# Altium footprint library Seeed-OPL-fuse.PCBLIB: 10 footprints
Each footprint in its own frame and in the unit in brackets; x right, y up, seen from the top. Pads: shape width x height; smd on the part's side, far side on the other; paste and mask are expansions set on the pad; w line width, h text height; cw(c..) or ccw(c..) is an arc to the next point about the centre after c.
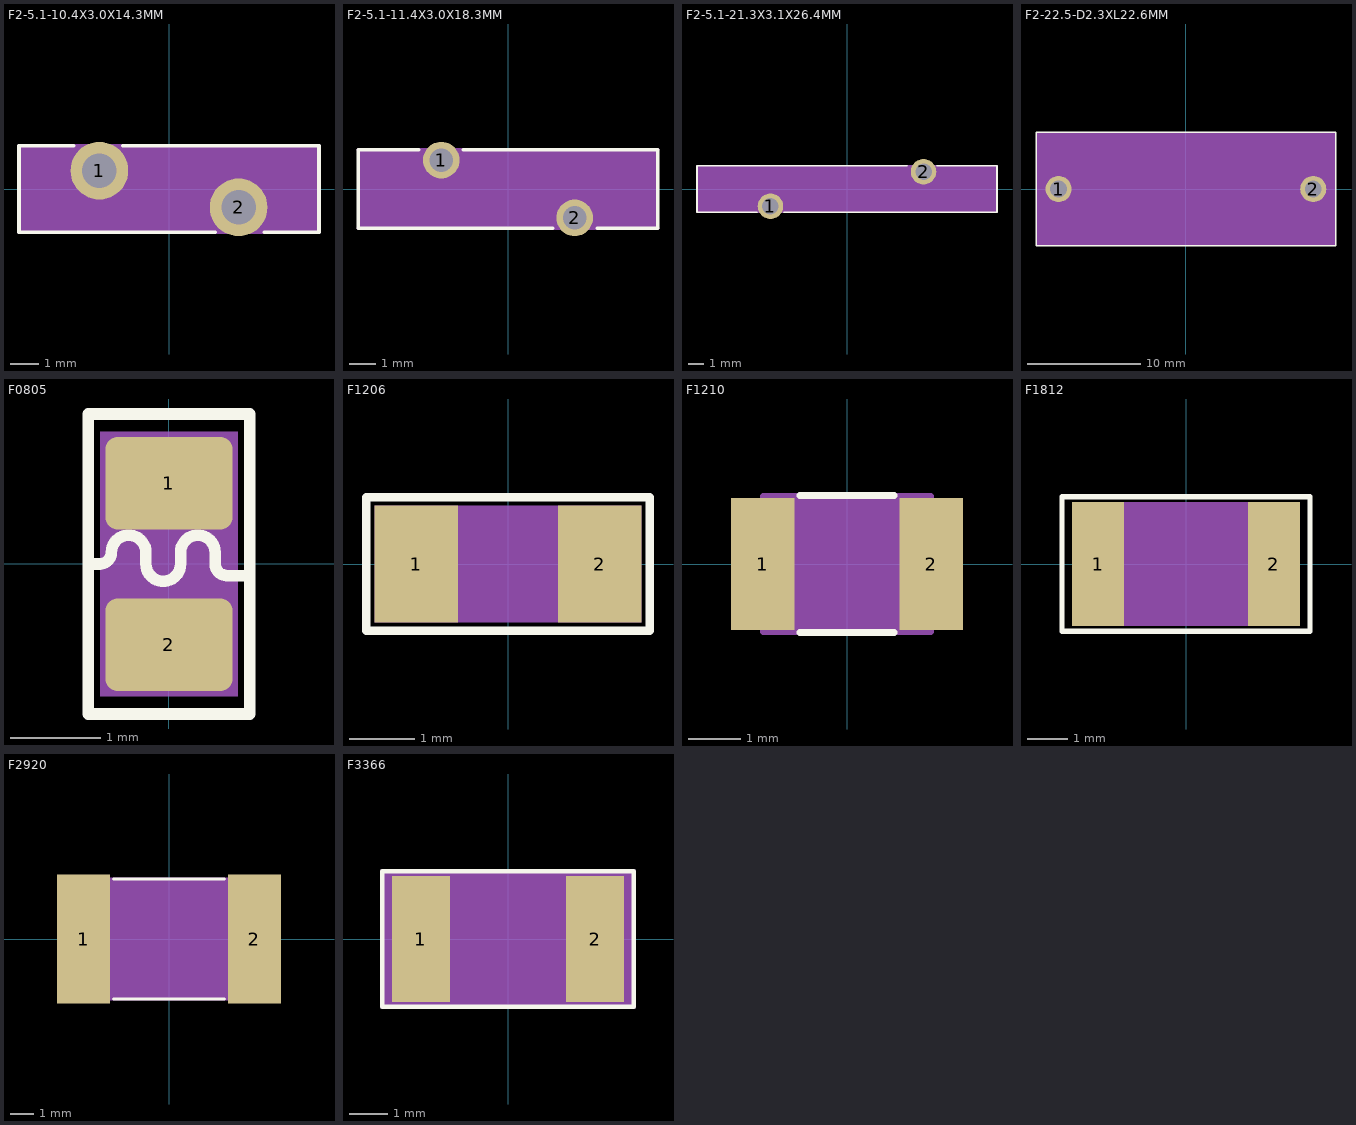
[diagram p0: the footprints below, top view; thin cyan lines are the x and y axes]

## F2-5.1-10.4X3.0X14.3MM [mm]
pads (2):
  round 2 hole 1.2: 1(-2.413,0.635) 2(2.413,-0.635)
Top Overlay:
  lines w0.127: -3.3,1.5 -5.2,1.5 -5.2,-1.5 1.6,-1.5 ; -1.6,1.5 5.2,1.5 5.2,-1.5 3.3,-1.5
Mechanical 16:
  lines w0.127: -5.2,-1.5 5.2,-1.5 ; -5.2,1.5 5.2,1.5
Mechanical 27:
  rectangle: -5.2,-1.5 5.2,1.5

## F2-5.1-11.4X3.0X18.3MM [mil]
pads (2):
  round 55 hole 35: 1(-100,43.31) 2(100,-43.31)
Top Overlay:
  lines w5: -133.86,59.06 -224.41,59.06 -224.41,-59.06 66.93,-59.06 ; -66.93,59.06 224.41,59.06 224.41,-59.06 133.86,-59.06
Mechanical 16:
  lines w5: -224.41,-59.06 224.41,-59.06 ; -224.41,59.06 224.41,59.06
Mechanical 27:
  rectangle: -225,-60 225,60

## F2-5.1-21.3X3.1X26.4MM [mil]
pads (2):
  round 66.93 hole 43.31: 1(-200.79,-45.28) 2(200.79,45.28)
Top Overlay:
  lines w5: -236.22,-61.02 -393.7,-61.02 -393.7,61.02 157.48,61.02 ; -165.35,-61.02 393.7,-61.02 393.7,61.02 236.22,61.02
Mechanical 16:
  lines w5: -393.7,-61.02 393.7,-61.02 ; -393.7,61.02 393.7,61.02
Mechanical 27:
  rectangle: -393.7,-61.02 393.7,61.02

## F2-22.5-D2.3XL22.6MM [mil]
pads (2):
  round 90.55 hole 59.06: 1(-442.91,0) 2(442.91,0)
Top Overlay:
  lines w5: -521.65,-196.85 521.65,-196.85 521.65,196.85 -521.65,196.85 -521.65,-196.85
Mechanical 27:
  rectangle: -517.91,-195 522.09,195

## F0805 [mil]
pads (2):
  rrect25% 55x40 smd: 1(0,35) 2(0,-35)
Top Overlay:
  lines w5: -35,0 -35,-65 35,-65 35,-5 ; -35,0 -35,65 35,65 35,-5 ; -35,0 -30,0 ccw(c-30,5) -25,5 cw(c-17.5,5) -10,5 -10,0 ccw(c-2.5,0) 5,0 5,5 cw(c12.5,5) 20,5 20,0 ccw(c25,0) 25,-5 35,-5
Mechanical 27:
  region: -30,57.5 -30,-57.5 30,-57.5 30,57.5

## F1206 [mil]
pads (2):
  rect 50x70 smd: 1(-55,0) 2(55,0)
Top Overlay:
  lines w5: -85,-40 85,-40 85,40 -85,40 -85,-40
Mechanical 27:
  rectangle: -80,-35 80,35

## F1210 [mil]
pads (2):
  rect 47.24x98.43 smd: 1(-62.99,0) 2(62.99,0)
Top Overlay:
  lines w5: -35.43,-51.18 35.43,-51.18 ; -35.43,51.18 35.43,51.18
Mechanical 16:
  lines w5: -62.4,-50.79 62.4,-50.79 62.4,50.79 -62.4,50.79 -62.4,-50.79
Mechanical 27:
  rectangle: -60,-50 60,50

## F1812 [mil]
pads (2):
  rect 50x120 smd: 1(-85,0) 2(85,0)
Top Overlay:
  lines w5: -120,-65 120,-65 120,65 -120,65 -120,-65
Mechanical 16:
  region: 0,0 10,0 10,10 0,10
  region: 0,0 10,0 10,10 0,10
Mechanical 27:
  rectangle: -110,-60 110,60

## F2920 [mm]
pads (2):
  rect 2.3x5.6 smd: 1(-3.7,0) 2(3.7,0)
Top Overlay:
  lines w0.127: -2.4,-2.6 2.4,-2.6 ; -2.4,2.6 2.4,2.6
Mechanical 16:
  lines w0.127: -3.7,-2.6 3.7,-2.6 3.7,2.6 -3.7,2.6 -3.7,-2.6
Mechanical 27:
  rectangle: -3.7,-2.6 3.7,2.6

## F3366 [mil]
pads (2):
  rect 60x130 smd: 1(-90,0) 2(90,0)
Top Overlay:
  lines w5: -130,-70 130,-70 130,70 -130,70 -130,-70
Mechanical 27:
  rectangle: -130,-70 130,70
  lines w5: -130,-70 130,-70 130,70 -130,70 -130,-70